# EAGLE library part LTC2950* (library linear-technology-2)
Push Button On/Off Controller
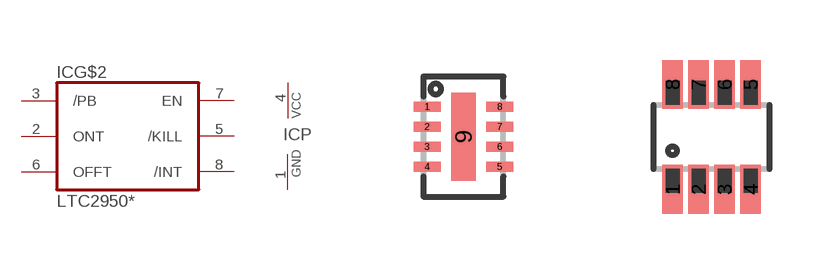
[diagram p38: symbol with the pads of DFN8; footprints DFN8, TSOT23-8]

Designator prefix IC; gates P=PWRN-C-G G$2=LTC2950-1

## LTC2950CDDB-1, LTC2950IDDB-1  [DFN8]
1  P:GND  pwr
2  G$2:ONT  pas
3  G$2:/PB  in
4  P:VCC  pwr
5  G$2:/KILL  in
6  G$2:OFFT  pas
7  G$2:EN  oc
8  G$2:/INT  oc

## LTC2950CTS8-1, LTC2950ITS8-1  [TSOT23-8]
1  P:VCC  pwr
2  G$2:/PB  in
3  G$2:ONT  pas
4  P:GND  pwr
5  G$2:/INT  oc
6  G$2:EN  oc
7  G$2:OFFT  pas
8  G$2:/KILL  in

## Footprint DFN8 (pad centres in mm)
smd 0.675 x 0.25: 1 -0.91,0.75; 2 -0.91,0.25; 3 -0.91,-0.25; 4 -0.91,-0.75; 5 0.91,-0.75; 6 0.91,-0.25; 7 0.91,0.25; 8 0.91,0.75
smd 0.61 x 2.2: 9 0,0

## Footprint TSOT23-8 (pad centres in mm)
smd 0.52 x 1.22: 1 -0.975,-1.31; 2 -0.325,-1.31; 3 0.325,-1.31; 4 0.975,-1.31; 5 0.975,1.31; 6 0.325,1.31; 7 -0.325,1.31; 8 -0.975,1.31